# Altium schematic symbol library SCH - POWER - LINEAR VREG - TI TL751L05_D_8.SchLib: 1 symbol
Pins are listed as number, name and electrical type; pins without a type are passive.

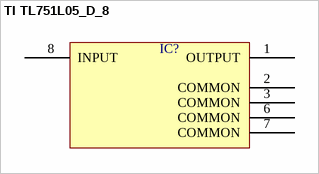
[diagram p0: symbol TI TL751L05_D_8]

## TI TL751L05_D_8
designator IC?  (value not drawn)
pins: 1 OUTPUT, 2 COMMON, 3 COMMON, 6 COMMON, 7 COMMON, 8 INPUT